# EAGLE library part MAX22530AWE+ (library MAX22530AWE+)
Field-Side Self-Powered, 4-Channel, 12-bit, Isolated ADC Source: Datasheet <https://www.analog.com/MAX22530/datasheet>
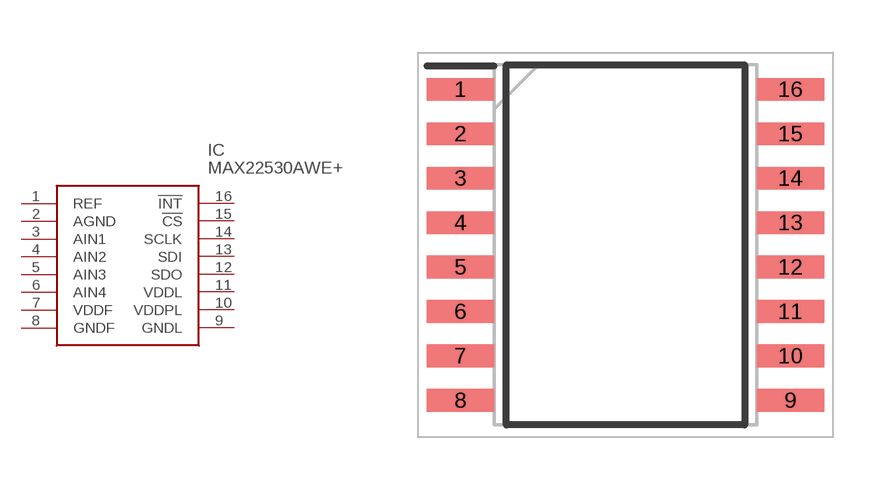
[diagram p0: symbol with the pads of SOIC127P1032X265-16N; footprint SOIC127P1032X265-16N]

Designator prefix IC

## MAX22530AWE+ (Description: Field-Side Self-Powered, 4-Channel, 12-bit, Isolated ADC; Height: 2.65mm; Manufacturer_Name: Analog Devices; Manufacturer_Part_Number: MAX22530AWE+; Mouser_Part_Number: 700-MAX22530AWE+; Mouser_Price-Stock: https://www.mouser.co.uk/ProductDetail/Analog-Devices-Maxim-Integrated/MAX22530AWE%2b?qs=DRkmTr78QASxug5yEXUKBg%3D%3D)  [SOIC127P1032X265-16N]
1  REF
2  AGND
3  AIN1
4  AIN2
5  AIN3
6  AIN4
7  VDDF
8  GNDF
9  GNDL
10  VDDPL
11  VDDL
12  SDO
13  SDI
14  SCLK
15  !CS
16  !INT

## Footprint SOIC127P1032X265-16N (pad centres in mm)
16-SOIC_W-300_MIL
smd 1.925 x 0.65: 1 -4.712,4.445; 2 -4.712,3.175; 3 -4.712,1.905; 4 -4.712,0.635; 5 -4.712,-0.635; 6 -4.712,-1.905; 7 -4.712,-3.175; 8 -4.712,-4.445; 9 4.712,-4.445; 10 4.712,-3.175; 11 4.712,-1.905; 12 4.712,-0.635; 13 4.712,0.635; 14 4.712,1.905; 15 4.712,3.175; 16 4.712,4.445